# Altium schematic symbol library PMIC - Voltage Regulators - DC DC Switching Regulators.SchLib: 4 symbols
Pins are listed as number, name and electrical type; pins without a type are passive.

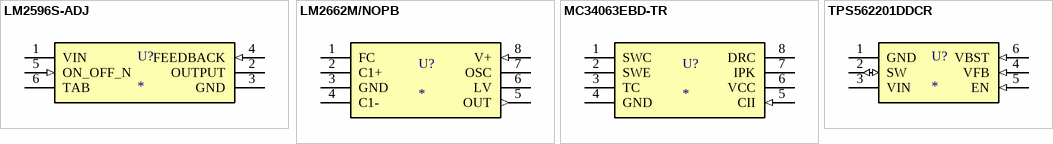
[diagram p0: symbols LM2596S-ADJ to TPS562201DDCR]

## LM2596S-ADJ
designator U?
IC REG BUCK ADJ 3A TO263-5
footprint TI_TO-263-5
pins: 1 VIN (power), 2 OUTPUT (power), 3 GND (power), 4 FEEDBACK (in), 5 ON_OFF_N (in), 6 TAB (power)

## LM2662M/NOPB
designator U?
IC REG CHARGE PUMP INV 8SOIC; Supplier 1: Digi-Key; Supplier 2: Farnell; Supplier 3: Mouser; Supplier Part Number 1: LM2662M/NOPB-ND; Supplier Part Number 2: 3123020; Supplier Part Number 3: 926-LM2662M/NOPB
footprint TI_8-SOIC
pins: 1 FC, 2 C1+, 3 GND, 4 C1-, 5 OUT (out), 6 LV, 7 OSC, 8 V+ (in)

## MC34063EBD-TR
designator U?
IC REG BUCK BST ADJ 1.5A 8SO; Supplier 1: Digi-Key; Supplier 2: Farnell; Supplier 3: Mouser; Supplier Part Number 1: 497-7851-6-ND; Supplier Part Number 2: 3367118; Supplier Part Number 3: 511-MC34063EBD-TR
footprint STM_SO-8
pins: 1 SWC, 2 SWE, 3 TC, 4 GND (power), 5 CII (in), 6 VCC (power), 7 IPK, 8 DRC

## TPS562201DDCR
designator U?
IC REG BUCK ADJ 2A SOT23; Supplier 1: Digikey; Supplier Part Number 1: 296-44397-1-ND; Supplier 2: Mouser; Supplier Part Number 2: 595-TPS562201DDCR
footprint TI_SOT-23-6
pins: 1 GND (power), 2 SW (io), 3 VIN (power), 4 VFB (in), 5 EN (in), 6 VBST (in)